# EAGLE library part WE-DSL_8PIN (library EagleLibrary_Wuerth_Elektronik_eiSos_rev16a)
SMD-VDSL Transformer WE-DSL - IEC60950 compatible -- for VDSL applications -- Matched to various manufacturers VDSL ICs Updated on 2014-07-07 2014 (C) Wurth Elektronik
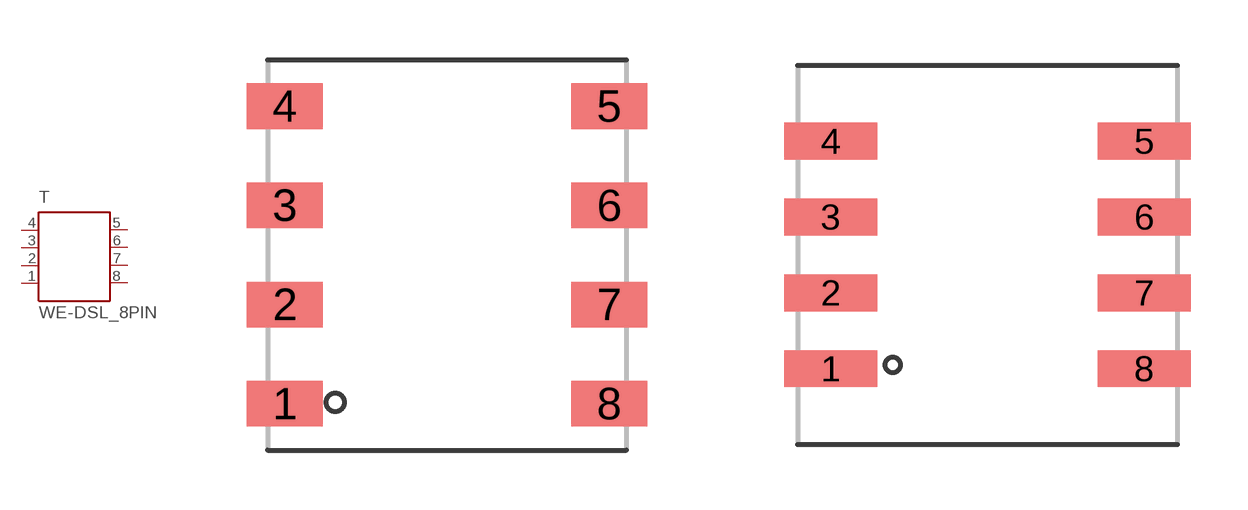
[diagram p4: symbol with the pads of WE_EP7_SMD_8PIN; footprints WE_EP7_SMD_8PIN, WE_EPX9_SMD_8PIN]

Designator prefix T

## WE-DSL_8PIN_7505101...  [WE_EP7_SMD_8PIN]
1  1  pas
2  2  pas
3  3  pas
4  4  pas
5  5  pas
6  6  pas
7  7  pas
8  8  pas

## WE-DSL_8PIN_75005153X  [WE_EP7_SMD_8PIN]
Pads as for WE_EP7_SMD_8PIN

## WE-DSL_8PIN_750051719  [WE_EPX9_SMD_8PIN]
Pads as for WE_EP7_SMD_8PIN

## Footprint WE_EP7_SMD_8PIN (pad centres in mm)
Transformer, EP7 SMD 8 Pin
smd 1.91 x 1.143: 1 -4.065,-3.735; 2 -4.065,-1.245; 3 -4.065,1.245; 4 -4.065,3.735; 5 4.065,3.735; 6 4.065,1.245; 7 4.065,-1.245; 8 4.065,-3.735

## Footprint WE_EPX9_SMD_8PIN (pad centres in mm)
Transformer, EPX9 SMD 8 Pin
smd 2.44 x 0.97: 1 -4.13,-3; 2 -4.13,-1; 3 -4.13,1; 4 -4.13,3; 5 4.13,3; 6 4.13,1; 7 4.13,-1; 8 4.13,-3